# EAGLE library part TRANSFORMER (library transformer)
Safety Transformer RS No: 310-1241 MRF No:VB 0.5/2/6
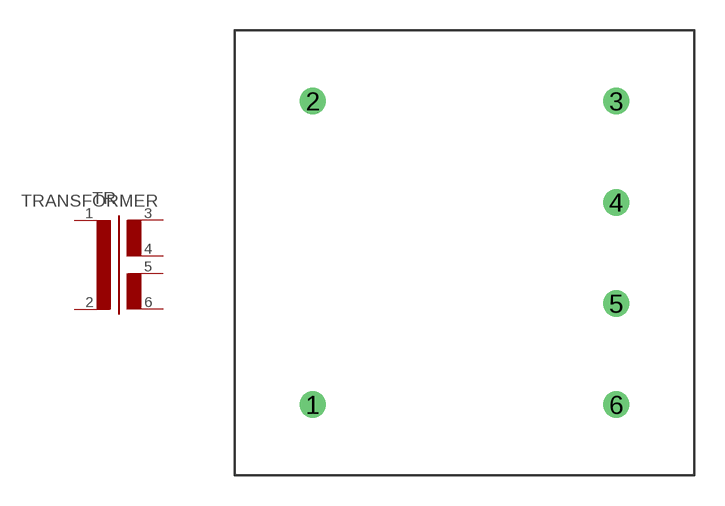
[diagram p0: symbol with the pads of TRANSFORMER; footprint TRANSFORMER]

Designator prefix TR

## TRANSFORMER  [TRANSFORMER]
1  P1  pas
2  P2  pas
3  S1  pas
4  S2  pas
5  S3  pas
6  S4  pas

## Footprint TRANSFORMER (pad centres in mm)
drill 0.8 pad 1.27: 1 -7.5,-7.5; 2 -7.5,7.5; 3 7.5,7.5; 4 7.5,2.5; 5 7.5,-2.5; 6 7.5,-7.5